# EAGLE library part KL05-24QFN (library Railstars)
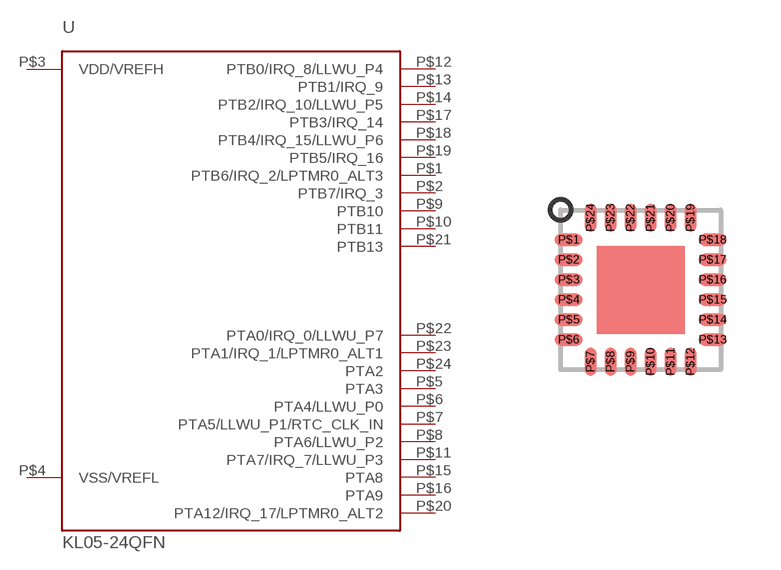
[diagram p39: symbol with the pads of QFN-24; footprint QFN-24]

Designator prefix -

## KL05-24QFN  [QFN-24]
P$1  PTB6/IRQ_2/LPTMR0_ALT3
P$2  PTB7/IRQ_3
P$3  VDD/VREFH
P$4  VSS/VREFL
P$5  PTA3
P$6  PTA4/LLWU_P0
P$7  PTA5/LLWU_P1/RTC_CLK_IN
P$8  PTA6/LLWU_P2
P$9  PTB10
P$10  PTB11
P$11  PTA7/IRQ_7/LLWU_P3
P$12  PTB0/IRQ_8/LLWU_P4
P$13  PTB1/IRQ_9
P$14  PTB2/IRQ_10/LLWU_P5
P$15  PTA8
P$16  PTA9
P$17  PTB3/IRQ_14
P$18  PTB4/IRQ_15/LLWU_P6
P$19  PTB5/IRQ_16
P$20  PTA12/IRQ_17/LPTMR0_ALT2
P$21  PTB13
P$22  PTA0/IRQ_0/LLWU_P7
P$23  PTA1/IRQ_1/LPTMR0_ALT1
P$24  PTA2

## Footprint QFN-24 (pad centres in mm)
smd 0.7 x 0.3: P$1 -1.8,1.25; P$2 -1.8,0.75; P$3 -1.8,0.25; P$4 -1.8,-0.25; P$5 -1.8,-0.75; P$6 -1.8,-1.25; P$13 1.8,-1.25; P$14 1.8,-0.75; P$15 1.8,-0.25; P$16 1.8,0.25; P$17 1.8,0.75; P$18 1.8,1.25
smd 0.3 x 0.7: P$7 -1.25,-1.8; P$8 -0.75,-1.8; P$9 -0.25,-1.8; P$10 0.25,-1.8; P$11 0.75,-1.8; P$12 1.25,-1.8; P$19 1.25,1.8; P$20 0.75,1.8; P$21 0.25,1.8; P$22 -0.25,1.8; P$23 -0.75,1.8; P$24 -1.25,1.8